# Altium footprint library PCB_LIB.PcbLib: 60 footprints (part 2 of 4)
Each footprint in its own frame and in the unit in brackets; x right, y up, seen from the top. Pads: shape width x height; smd on the part's side, far side on the other; paste and mask are expansions set on the pad; w line width, h text height; cw(c..) or ccw(c..) is an arc to the next point about the centre after c.
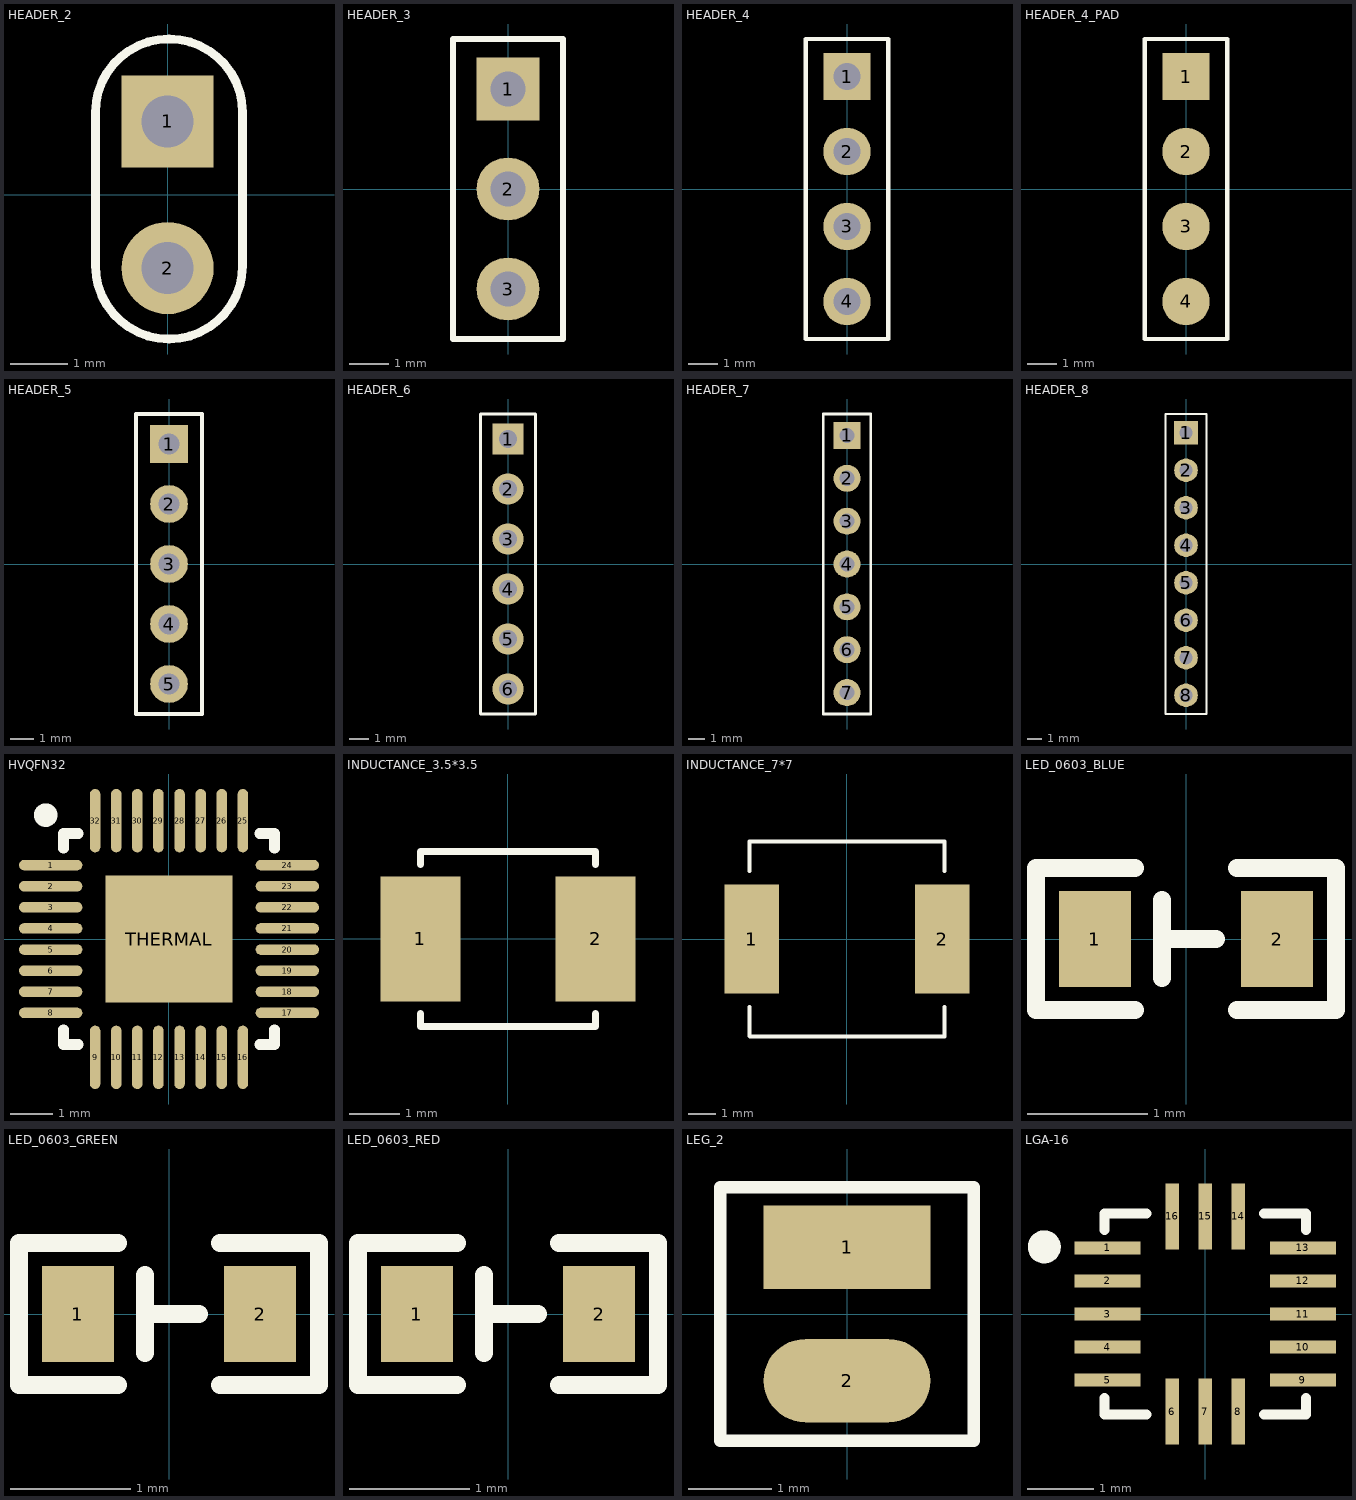
[diagram p1: the footprints below, top view; thin cyan lines are the x and y axes]

## HEADER_2 [mm]
pads (2):
  rect 1.6x1.6 hole 0.9: 1(0,1.27)
  round 1.6 hole 0.9: 2(0,-1.27)
Top Overlay:
  lines w0.15: 0.02,2.7 ccw(c0.02,1.43) -1.25,1.43 -1.25,-1.23 ccw(c0.02,-1.23) 0.02,-2.5 0.03,-2.5 ccw(c0.03,-1.23) 1.3,-1.23 1.3,1.43 ccw(c0.03,1.43) 0.03,2.7

## HEADER_3 [mm]
pads (3):
  rect 1.6x1.6 hole 0.9: 1(0,2.54)
  round 1.6 hole 0.9: 2(0,0) 3(0,-2.54)
Top Overlay:
  lines w0.15: -1.397,-3.81 1.397,-3.81 1.397,3.81 -1.397,3.81 -1.397,-3.81
3D body "User Library-PZ-3P.STEP": height 8, standoff -3, extent -1.27,-3.81 1.27,3.81

## HEADER_4 [mm]
pads (4):
  rect 1.6x1.6 hole 0.9: 1(0,3.81)
  round 1.6 hole 0.9: 2(0,1.27) 3(0,-1.27) 4(0,-3.81)
Top Overlay:
  lines w0.15: -1.397,-5.08 1.397,-5.08 1.397,5.08 -1.397,5.08 -1.397,-5.08
3D body "HEADER_4.STEP": height 9.57, standoff -1.97, extent -1.257,-5.068 1.283,5.092

## HEADER_4_PAD [mm]
pads (4):
  rect 1.6x1.6 smd: 1(0,3.81)
  round 1.6 smd: 2(0,1.27) 3(0,-1.27) 4(0,-3.81)
Top Overlay:
  lines w0.15: -1.397,-5.08 1.397,-5.08 1.397,5.08 -1.397,5.08 -1.397,-5.08

## HEADER_5 [mm]
pads (5):
  rect 1.6x1.6 hole 0.9: 1(0,5.08)
  round 1.6 hole 0.9: 2(0,2.54) 3(0,0) 4(0,-2.54) 5(0,-5.08)
Top Overlay:
  lines w0.15: -1.397,-6.35 -1.397,6.35 1.397,6.35 1.397,-6.35 -1.397,-6.35

## HEADER_6 [mm]
pads (6):
  rect 1.6x1.6 hole 0.9: 1(0,6.35)
  round 1.6 hole 0.9: 2(0,3.81) 3(0,1.27) 4(0,-1.27) 5(0,-3.81) 6(0,-6.35)
Top Overlay:
  lines w0.15: -1.397,-7.62 -1.397,7.62 1.397,7.62 1.397,-7.62 -1.397,-7.62

## HEADER_7 [mm]
pads (7):
  rect 1.6x1.6 hole 0.9: 1(0,7.62)
  round 1.6 hole 0.9: 2(0,5.08) 3(0,2.54) 4(0,0) 5(0,-2.54) 6(0,-5.08) 7(0,-7.62)
Top Overlay:
  lines w0.15: -1.397,-8.89 1.397,-8.89 1.397,8.89 -1.397,8.89 -1.397,-8.89

## HEADER_8 [mm]
pads (8):
  rect 1.6x1.6 hole 0.9: 1(0,8.89)
  round 1.6 hole 0.9: 2(0,6.35) 3(0,3.81) 4(0,1.27) 5(0,-1.27) 6(0,-3.81) 7(0,-6.35) 8(0,-8.89)
Top Overlay:
  lines w0.15: -1.397,-10.16 1.397,-10.16 1.397,10.16 -1.397,10.16 -1.397,-10.16

## HVQFN32 [mm]
pads (33):
  oval 1.5x0.25 smd: 1(-2.804,1.75) 2(-2.804,1.25) 3(-2.804,0.75) 4(-2.804,0.25) 5(-2.804,-0.25) 6(-2.804,-0.75) 7(-2.804,-1.25) 8(-2.804,-1.75) 17(2.804,-1.75) 18(2.804,-1.25) 19(2.804,-0.75) 20(2.804,-0.25) 21(2.804,0.25) 22(2.804,0.75) 23(2.804,1.25) 24(2.804,1.75)
  oval 0.25x1.5 smd: 9(-1.75,-2.804) 10(-1.25,-2.804) 11(-0.75,-2.804) 12(-0.25,-2.804) 13(0.25,-2.804) 14(0.75,-2.804) 15(1.25,-2.804) 16(1.75,-2.804) 25(1.75,2.804) 26(1.25,2.804) 27(0.75,2.804) 28(0.25,2.804) 29(-0.25,2.804) 30(-0.75,2.804) 31(-1.25,2.804) 32(-1.75,2.804)
  rect 3x3 smd: THERMAL(0,0)
Top Overlay:
  circle w0.305: c-2.922,2.936 r0.127
  lines w0.254: -2.5,-2.15 -2.5,-2.5 -2.15,-2.5 ; -2.5,2.15 -2.5,2.5 -2.15,2.5 ; 2.15,-2.5 2.5,-2.5 2.5,-2.15 ; 2.15,2.5 2.5,2.5 2.5,2.15

## INDUCTANCE_3.5*3.5 [mm]
height 3
pads (2):
  rect 1.6x2.5 smd: 1(-1.75,0) 2(1.75,0)
Top Overlay:
  lines w0.15: -1.75,-1.496 -1.75,-1.75 1.75,-1.75 1.75,-1.496 ; -1.75,1.496 -1.75,1.75 1.75,1.75 1.75,1.496

## INDUCTANCE_7*7 [mm]
height 3
pads (2):
  rect 2x4 smd: 1(-3.5,0) 2(3.5,0)
Top Overlay:
  lines w0.15: -3.575,-2.5 -3.575,-3.562 -3.562,-3.575 3.575,-3.575 ; -3.575,2.5 -3.575,3.575 3.575,3.575 3.575,2.5 ; 3.562,-3.575 3.575,-3.562 3.575,-2.5
3D body "INDUCTANCE.STEP": height 3, standoff 0, extent -3.9,-3.5 3.9,3.5

## LED_0603_BLUE [mm]
pads (2):
  rect 0.6x0.8 smd: 1(-0.76,0) 2(0.76,0)
Top Overlay:
  lines w0.15: -0.425,-0.59 -1.25,-0.59 -1.25,0.59 -0.425,0.59 ; -0.2,-0.325 -0.2,0.325 ; -0.2,0 0.25,0 ; 0.425,-0.59 1.25,-0.59 1.25,0.59 0.425,0.59
3D body "User Library-LED_0603_B.STEP": height 0.6, standoff 0, extent -0.8,-0.4 0.8,0.4

## LED_0603_GREEN [mm]
pads (2):
  rect 0.6x0.8 smd: 1(-0.76,0) 2(0.76,0)
Top Overlay:
  lines w0.15: -0.425,-0.59 -1.25,-0.59 -1.25,0.59 -0.425,0.59 ; -0.2,-0.325 -0.2,0.325 ; -0.2,0 0.25,0 ; 0.425,-0.59 1.25,-0.59 1.25,0.59 0.425,0.59
3D body "User Library-LED_0603_G.STEP": height 0.6, standoff 0, extent -0.8,-0.4 0.8,0.4

## LED_0603_RED [mm]
pads (2):
  rect 0.6x0.8 smd: 1(-0.76,0) 2(0.76,0)
Top Overlay:
  lines w0.15: -0.425,-0.59 -1.25,-0.59 -1.25,0.59 -0.425,0.59 ; -0.2,-0.325 -0.2,0.325 ; -0.2,0 0.25,0 ; 0.425,-0.59 1.25,-0.59 1.25,0.59 0.425,0.59
3D body "User Library-LED_0603_R.STEP": height 0.6, standoff 0, extent -0.8,-0.4 0.8,0.4

## LEG_2 [mm]
pads (2):
  rect 2x1 smd: 1(0,0.8)
  oval 2x1 smd: 2(0,-0.8)
Top Overlay:
  lines w0.15: -1.524,-1.524 1.524,-1.524 1.524,1.524 -1.524,1.524 -1.524,-1.524

## LGA-16 [mm]
pads (16):
  rect 1x0.2 smd: 1(-1.479,1) 2(-1.479,0.5) 3(-1.479,0) 4(-1.479,-0.5) 5(-1.479,-1) 9(1.479,-1) 10(1.479,-0.5) 11(1.479,0) 12(1.479,0.5) 13(1.479,1)
  rect 0.2x1 smd: 6(-0.5,-1.479) 7(0,-1.479) 8(0.5,-1.479) 14(0.5,1.479) 15(0,1.479) 16(-0.5,1.479)
Top Overlay:
  circle w0.25: c-2.438,1.016 r0.125
  lines w0.15: -1.524,-1.27 -1.524,-1.524 -0.889,-1.524 ; -1.524,1.27 -1.524,1.524 -0.889,1.524 ; 0.889,-1.524 1.524,-1.524 1.524,-1.27 ; 0.889,1.524 1.524,1.524 1.524,1.27
Top Solder:
  region: -1.532,1.22 -0.92,1.22 -0.92,0.781 -1.532,0.781
  region: -1.532,0.72 -0.92,0.72 -0.92,0.28 -1.532,0.28
  region: -1.534,0.22 -0.92,0.22 -0.92,-0.221 -1.534,-0.221
  region: -1.534,-0.28 -0.92,-0.28 -0.92,-0.722 -1.534,-0.722
  region: -1.531,-0.78 -0.92,-0.78 -0.92,-1.221 -1.531,-1.221
  region: 1.53,-0.72 0.921,-0.72 0.921,-0.28 1.53,-0.28
  region: 1.53,-0.221 0.922,-0.221 0.922,0.22 1.53,0.22
  region: 1.53,0.281 0.922,0.281 0.922,0.72 1.53,0.72
  region: 1.53,0.781 0.921,0.781 0.921,1.22 1.53,1.22
  region: 1.53,-1.223 0.922,-1.223 0.922,-0.78 1.53,-0.78
  region: 0.279,-1.531 0.279,-0.921 0.721,-0.921 0.721,-1.531
  region: -0.222,-1.532 -0.222,-0.921 0.221,-0.921 0.221,-1.532
  region: -0.722,-1.532 -0.722,-0.921 -0.279,-0.921 -0.279,-1.532
  region: 0.719,1.531 0.719,0.921 0.281,0.921 0.281,1.531
  region: 0.219,1.531 0.219,0.92 -0.22,0.92 -0.22,1.531
  region: -0.282,1.532 -0.282,0.92 -0.72,0.92 -0.72,1.532
3D body "User Library-LIS331AL.step": height 1.01, standoff -0.01, extent -1.5,-1.509 1.5,1.492